# Altium footprint library PCB - LEADED - SOT-23 - VISHAY SOT-23 TO-236 P-CH GDS.PcbLib: 1 footprints
Each footprint in its own frame and in the unit in brackets; x right, y up, seen from the top. Pads: shape width x height; smd on the part's side, far side on the other; paste and mask are expansions set on the pad; w line width, h text height; cw(c..) or ccw(c..) is an arc to the next point about the centre after c.
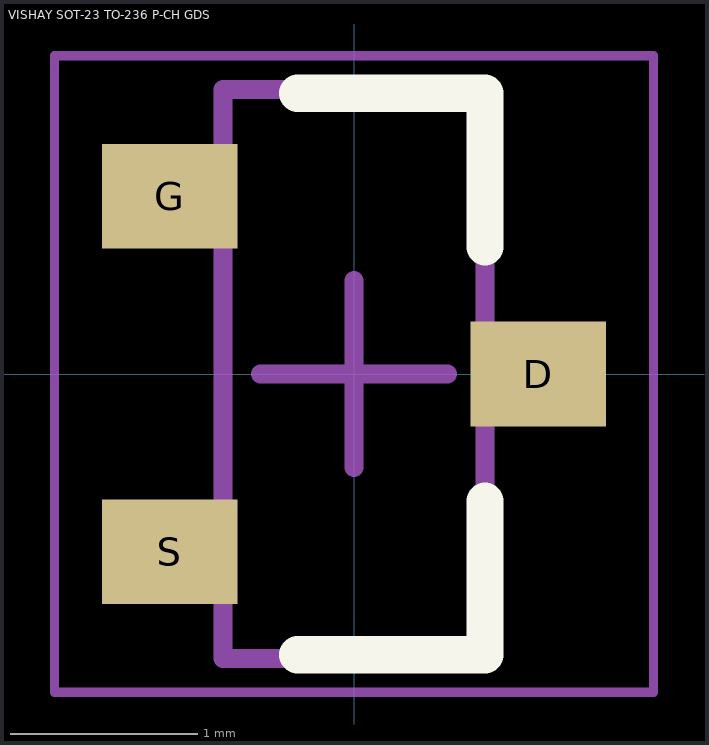
[diagram p0: the footprint, top view; thin cyan lines are the x and y axes]

## VISHAY SOT-23 TO-236 P-CH GDS [mm] "SOT23, 3-Leads, Body 2.92x2.37mm, Pitch 0.95mm"
height 1.12
pads (3):
  rect 0.724x0.559 smd: D(0.985,0) G(-0.984,0.95) S(-0.984,-0.95)
Top Overlay:
  lines w0.2: -0.3,-1.5 0.7,-1.5 0.7,-0.679 ; -0.3,1.5 0.7,1.5 0.7,0.68
Mechanical 13:
  lines w0.1: -0.7,-1.52 -0.7,1.52 0.7,1.52 0.7,-1.52 -0.7,-1.52
Mechanical 15:
  lines w0.05: -1.6,-1.7 -1.6,1.7 1.6,1.7 1.6,-1.7 -1.6,-1.7
  lines w0.1: -0.5,0 0.5,0 ; 0,-0.5 0,0.5
3D body "VISHAY SOT-23 TO-236 P-CH GDS.step": height 1.12, standoff 0, extent -1.32,-1.52 1.32,1.52